# Altium footprint library EE194_PCB.PcbLib: 39 footprints (part 3 of 3)
Each footprint in its own frame and in the unit in brackets; x right, y up, seen from the top. Pads: shape width x height; smd on the part's side, far side on the other; paste and mask are expansions set on the pad; w line width, h text height; cw(c..) or ccw(c..) is an arc to the next point about the centre after c.
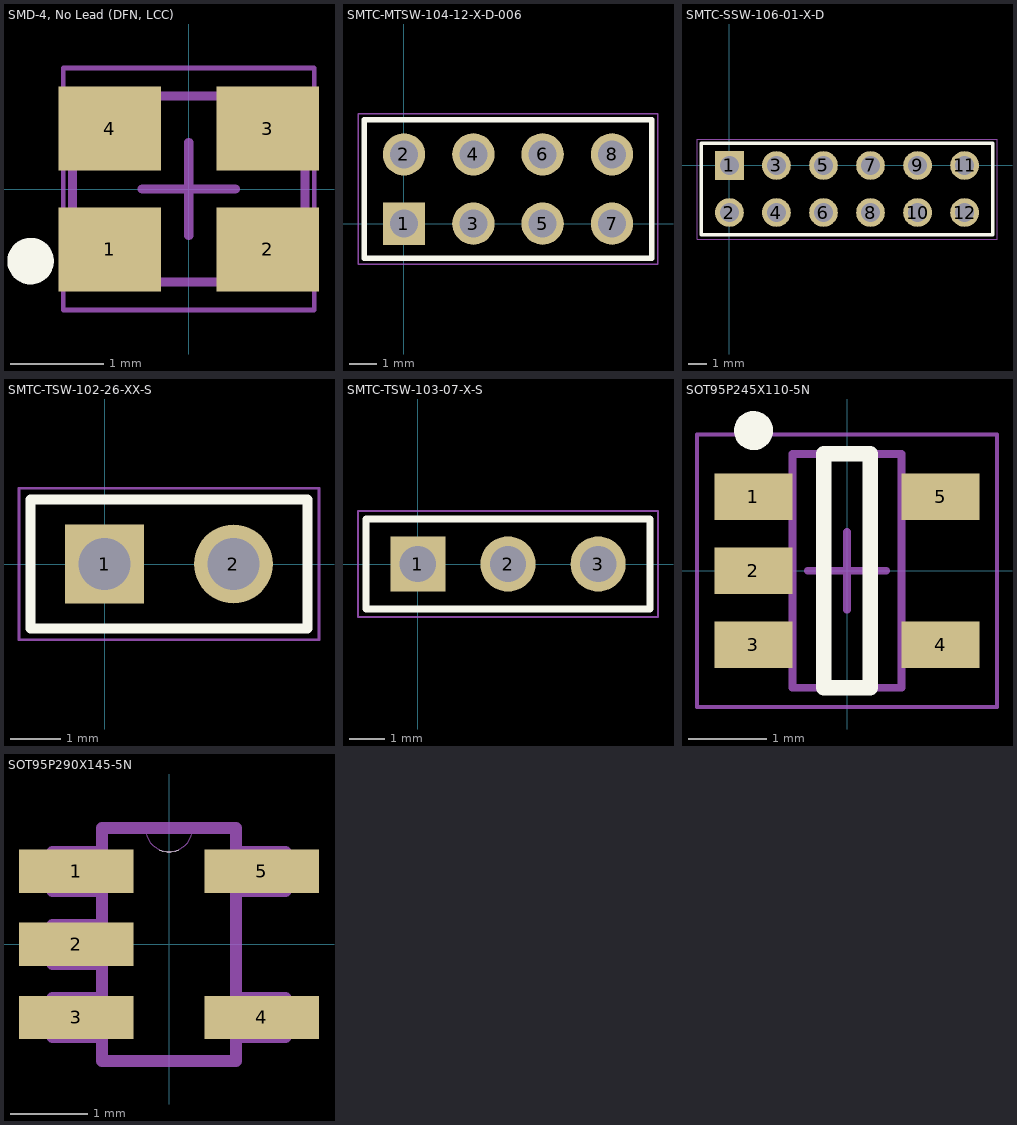
[diagram p2: the footprints below, top view; thin cyan lines are the x and y axes]

## SMD-4, No Lead (DFN, LCC) [mm] "SMD, 4-Leads, Body 2.5x2mm, Height 0.9mm"
height 0.9
pads (4):
  rect 1.1x0.9 smd: 1(-0.85,-0.65) 2(0.85,-0.65) 3(0.85,0.65) 4(-0.85,0.65)
Top Overlay:
  circle w0.25: c-1.7,-0.775 r0.125
Mechanical 13:
  lines w0.1: -1.25,-1 -1.25,1 1.25,1 1.25,-1 -1.25,-1
Mechanical 15:
  lines w0.05: -1.35,-1.3 1.35,-1.3 1.35,1.3 -1.35,1.3 -1.35,-1.3
  lines w0.1: -0.5,0 0.5,0 ; 0,-0.5 0,0.5
3D body: height 0.9, standoff 0, extent -1.25,-1 1.25,1

## SMTC-MTSW-104-12-X-D-006 [mm] "Assembly .025\" [.64] SQ Post Terminal Strip, 2x4 Pins, Vertical, 2.54mm Pitch, Male"
height 2.896
pads (8):
  rect 1.55x1.55 hole 1.02: 1(0,0)
  round 1.55 hole 1.02: 2(0,2.54) 3(2.54,0) 4(2.54,2.54) 5(5.08,0) 6(5.08,2.54) 7(7.62,0) 8(7.62,2.54)
Top Overlay:
  lines w0.2: -1.46,-1.27 9.08,-1.27 9.08,3.81 -1.46,3.81 -1.46,-1.27
Mechanical 13:
  lines w0.1: -1.46,-1.27 9.08,-1.27 9.08,3.81 -1.46,3.81 -1.46,-1.27
Mechanical 15:
  lines w0.05: -1.685,-1.495 9.305,-1.495 9.305,4.035 -1.685,4.035 -1.685,-1.495
3D body "MTSW-104-12-X-D-006.step": height 2.69, standoff -23.47, extent -1.27,-1.27 8.89,3.81

## SMTC-SSW-106-01-X-D [mm] "SQ Post Socket, 2x6 Pins, Vertical, 2.54mm Pitch, Female"
height 8.51
pads (12):
  rect 1.55x1.55 hole 1.04: 1(0,0)
  round 1.55 hole 1.04: 2(0,-2.54) 3(2.54,0) 4(2.54,-2.54) 5(5.08,0) 6(5.08,-2.54) 7(7.62,0) 8(7.62,-2.54) 9(10.16,0) 10(10.16,-2.54) 11(12.7,0) 12(12.7,-2.54)
Top Overlay:
  lines w0.2: -1.525,-3.745 -1.525,1.205 14.225,1.205 14.225,-3.745 -1.525,-3.745
Mechanical 13:
  lines w0.1: -1.525,-3.745 -1.525,1.205 14.225,1.205 14.225,-3.745 -1.525,-3.745
Mechanical 15:
  lines w0.05: -1.75,-3.97 -1.75,1.43 14.45,1.43 14.45,-3.97 -1.75,-3.97
3D body "SSW-106-01-X-D.step": height 8.51, standoff -2.64, extent -1.524,-3.747 14.224,1.207

## SMTC-TSW-102-26-XX-S [mm] ".025 SQ Post Terminal Strip Assembly, 1x2 Pins, Vertical, 2.54mm Pitch, Male"
height 8.58
pads (2):
  rect 1.55x1.55 hole 1.02: 1(0,0)
  round 1.55 hole 1.02: 2(2.54,0)
Top Overlay:
  lines w0.2: -1.46,-1.27 -1.46,1.27 4,1.27 4,-1.27 -1.46,-1.27
Mechanical 13:
  lines w0.1: -1.46,-1.27 -1.46,1.27 4,1.27 4,-1.27 -1.46,-1.27
Mechanical 15:
  lines w0.05: -1.685,-1.495 -1.685,1.495 4.225,1.495 4.225,-1.495 -1.685,-1.495
3D body "TSW-102-26-XX-S.step": height 8.38, standoff -3.2, extent -1.397,-1.271 3.81,1.27

## SMTC-TSW-103-07-X-S [mm] ".025 SQ Post Terminal Strip Assembly, 1x3 Pins, Vertical, 2.54mm Pitch, Male"
height 8.58
pads (3):
  rect 1.55x1.55 hole 1.02: 1(0,0)
  round 1.55 hole 1.02: 2(2.54,0) 3(5.08,0)
Top Overlay:
  lines w0.2: -1.46,-1.27 -1.46,1.27 6.54,1.27 6.54,-1.27 -1.46,-1.27
Mechanical 13:
  lines w0.1: -1.46,-1.27 -1.46,1.27 6.54,1.27 6.54,-1.27 -1.46,-1.27
Mechanical 15:
  lines w0.05: -1.685,-1.495 -1.685,1.495 6.765,1.495 6.765,-1.495 -1.685,-1.495
3D body "TSW-103-07-X-S.step": height 8.38, standoff -2.54, extent -1.27,-1.27 6.35,1.27

## SOT95P245X110-5N [mm] "SOT23, 5-Leads, Body 2.90x2.45mm, Pitch 0.95mm, IPC Medium Density"
height 1.1
pads (5):
  rect 1x0.6 smd: 1(-1.2,0.95) 2(-1.2,0) 3(-1.2,-0.95) 4(1.2,-0.95) 5(1.2,0.95)
Top Overlay:
  circle w0.25: c-1.2,1.8 r0.125
  lines w0.2: -0.3,-1.5 -0.3,1.5 0.3,1.5 0.3,-1.5 -0.3,-1.5
Mechanical 13:
  lines w0.1: -0.7,-1.5 0.7,-1.5 0.7,1.5 -0.7,1.5 -0.7,-1.5
Mechanical 15:
  lines w0.05: -1.925,-1.75 1.925,-1.75 1.925,1.75 -1.925,1.75 -1.925,-1.75
  lines w0.1: -0.5,0 0.5,0 ; 0,-0.5 0,0.5
3D body: height 1.1, standoff 0.05, extent -0.7,-1.5 0.7,1.5

## SOT95P290X145-5N [mil]
pads (5):
  rect 58x22 smd: 1(-47,37) 2(-47,0) 3(-47,-37) 4(47,-37) 5(47,37)
Top Overlay:
  lines w0: -5,48 ccw(c0,59.23) 5,48
Mechanical 1:
  lines w0: -12,59 ccw(c0,59) 12,59
  lines w6: -34,-47 -34,-59 34,-59 34,-47 ; -34,-47 -34,-27 ; -34,-47 -59,-47 -59,-27 -34,-27 ; -34,-27 -34,-10 ; -34,-10 -34,10 ; -34,-10 -59,-10 -59,10 -34,10 ; -34,10 -34,27 ; -34,27 -34,47 ; -34,27 -59,27 -59,47 -34,47 ; -34,47 -34,59 -12,59 12,59 34,59 34,47 ; 34,-47 34,-27 ; 34,-47 59,-47 59,-27 34,-27 ; 34,-27 34,27 ; 34,27 34,47 ; 34,27 59,27 59,47 34,47